# Altium footprint library 61030821821.PcbLib: 1 footprints
Each footprint in its own frame and in the unit in brackets; x right, y up, seen from the top. Pads: shape width x height; smd on the part's side, far side on the other; paste and mask are expansions set on the pad; w line width, h text height; cw(c..) or ccw(c..) is an arc to the next point about the centre after c.
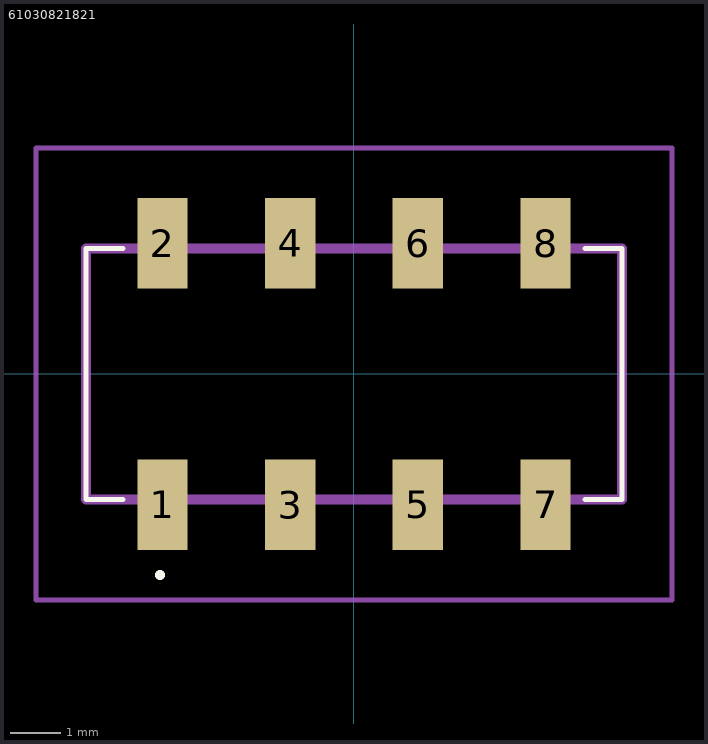
[diagram p0: the footprint, top view; thin cyan lines are the x and y axes]

## 61030821821 [mm]
pads (8):
  rect 1x1.8 smd: 1(-3.81,-2.6) 2(-3.81,2.6) 3(-1.27,-2.6) 4(-1.27,2.6) 5(1.27,-2.6) 6(1.27,2.6) 7(3.81,-2.6) 8(3.81,2.6)
Top Overlay:
  lines w0.1: -4.6,-2.5 -5.33,-2.5 -5.33,2.5 -4.6,2.5 ; 4.6,-2.5 5.33,-2.5 5.33,2.5 4.6,2.5 ; -3.91,-4 cw(c-3.86,-4) -3.81,-4 ; -3.91,-4 -3.91,-4 ; -3.91,-4 ccw(c-3.86,-4) -3.81,-4 ; -3.81,-4 -3.81,-4
Mechanical 15:
  lines w0.2: -5.33,-2.5 5.33,-2.5 5.33,2.5 -5.33,2.5 -5.33,-2.5
Mechanical 20:
  lines w0.1: -6.33,-4.5 6.33,-4.5 6.33,4.5 -6.33,4.5 -6.33,-4.5